# EAGLE library part JTAGSWITCH (library pixel)
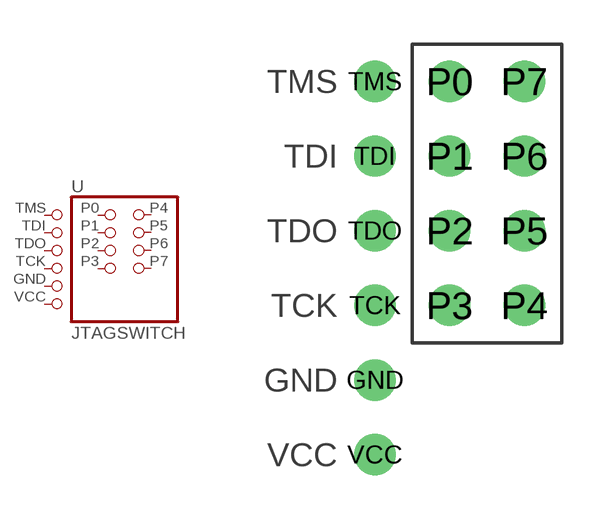
[diagram p3: symbol with the pads of JTAGSWITCH; footprint JTAGSWITCH]

Designator prefix -

## JTAGSWITCH  [JTAGSWITCH]
GND  GND  pas
P0  P0  pas
P1  P1  pas
P2  P2  pas
P3  P3  pas
P4  P4  pas
P5  P5  pas
P6  P6  pas
P7  P7  pas
TCK  TCK  pas
TDI  TDI  pas
TDO  TDO  pas
TMS  TMS  pas
VCC  VCC  pas

## Footprint JTAGSWITCH (pad centres in mm)
drill 0.9 pad 1.27: GND -3.81,-6.35; P0 -1.27,3.81; P1 -1.27,1.27; P2 -1.27,-1.27; P3 -1.27,-3.81; P4 1.27,-3.81; P5 1.27,-1.27; P6 1.27,1.27; P7 1.27,3.81; TCK -3.81,-3.81; TDI -3.81,1.27; TDO -3.81,-1.27; TMS -3.81,3.81; VCC -3.81,-8.89